# Altium schematic symbol library 1287.SchLib: 1 symbol
Pins are listed as number, name and electrical type; pins without a type are passive.

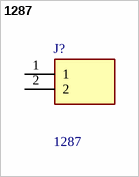
[diagram p0: symbol 1287]

## 1287
designator J?
Keystone Solder Tab Terminal, Uninsulated, Tin Plated, Straight, 6.35 x 0.81mm; Manufacturer_Name: Keystone Electronics; Geometry.Height: 10.21mm; Manufacturer_Part_Number: 1287; Mouser Part Number: 534-1287; Mouser Price/Stock: https://www.mouser.co.uk/ProductDetail/Keystone-Electronics/1287?qs=q0tsjPZWdm9xH%2FNoe8zWKg%3D%3D; Arrow Part Number: 1287; Arrow Price/Stock: https://www.arrow.com/en/products/1287/keystone-electronics?region=europe; Mouser Testing Part Number: *; Mouser Testing Price/Stock: *; Datasheet Link: https://www.keyelco.com/product-pdf.cfm?p=610
footprint 1287
pins: 1, 2